# Altium footprint library PCB - AUDIO - CUI CMS-16093-078SP.PcbLib: 1 footprints
Each footprint in its own frame and in the unit in brackets; x right, y up, seen from the top. Pads: shape width x height; smd on the part's side, far side on the other; paste and mask are expansions set on the pad; w line width, h text height; cw(c..) or ccw(c..) is an arc to the next point about the centre after c.
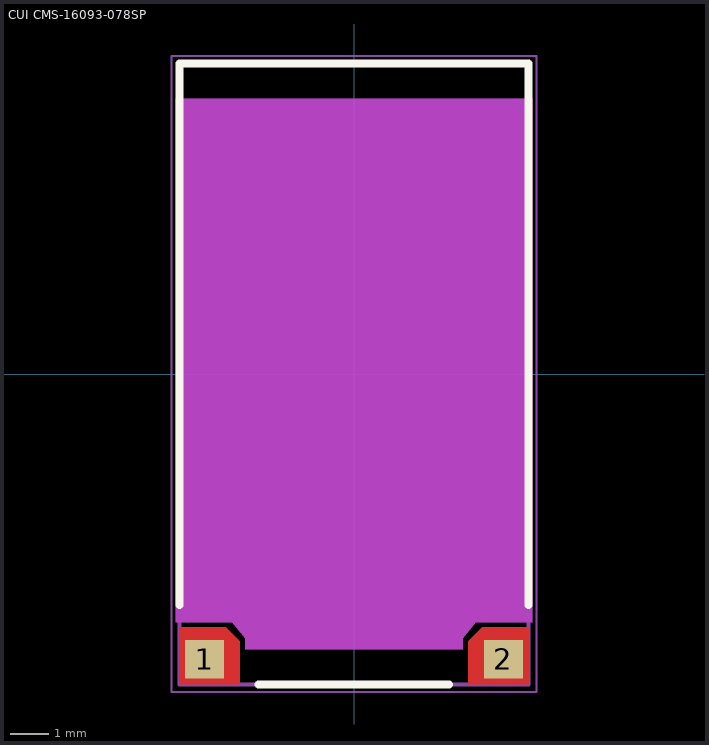
[diagram p0: the footprint, top view; thin cyan lines are the x and y axes]

## CUI CMS-16093-078SP [mm] "16.00 x 9.00 mm Body, 8 Ohms General Purpose Speaker 700mW 100Hz ~ 20kHz Top Rectangular"
height 3.15
pads (2):
  rect 1x1 smd: 1(-3.85,-7.35) 2(3.85,-7.35)
Top Layer:
  region: 4.5,-8 2.95,-8 2.95,-6.889 3.309,-6.53 4.5,-6.53
  region: -4.5,-8 -2.95,-8 -2.95,-6.889 -3.309,-6.53 -4.5,-6.53
Top Overlay:
  lines w0.2: -4.5,-5.95 -4.5,8 4.5,8 4.5,-5.95 ; -2.458,-8 0,-8 ; -0.008,-8 2.45,-8
Keep-Out Layer:
  board cut-out: -2.8,-7.1 -2.8,-6.815 -3.135,-6.4 -4.6,-6.4 -4.6,7.1 4.6,7.1 4.6,-6.4 3.135,-6.4 2.8,-6.815 2.8,-7.1
Mechanical 13:
  lines w0.1: -4.5,-8 4.5,-8 4.5,8 -4.5,8 -4.5,-8
Mechanical 15:
  lines w0.05: -4.7,-8.2 4.7,-8.2 4.7,8.2 -4.7,8.2 -4.7,-8.2
  lines w0.1: -2,0 0,0 ; 0,-2 0,0 ; 0,2 0,0 ; 0,0 2,0 0,0
Route Tool Path:
  region: -2.8,-7.1 -2.8,-6.815 -3.135,-6.4 -4.6,-6.4 -4.6,7.1 4.6,7.1 4.6,-6.4 3.135,-6.4 2.8,-6.815 2.8,-7.1
3D body "CUI -  CMS-16093-078SP v1.step": height 2.2, standoff -0.8, extent -4.5,-8 4.5,8